# Altium schematic symbol library NB3V8312CMNG.SchLib: 1 symbol
Pins are listed as number, name and electrical type; pins without a type are passive.

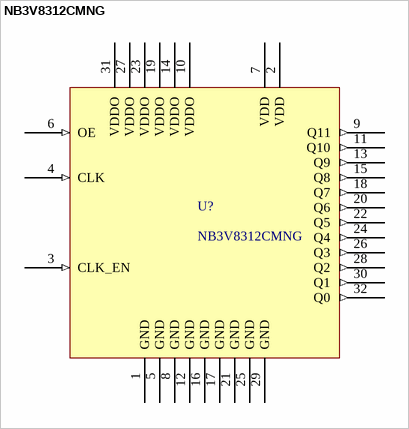
[diagram p0: symbol NB3V8312CMNG]

## NB3V8312CMNG
designator U?
Clock Fanout Buffer (Distribution) IC 1:12 250 MHz 32-VFQFN Exposed Pad; Supplier 1: Digi-Key; Supplier Part Number 1: NB3V8312CMNGOS-ND; Series: NB3V8312CMNG
footprint QFN32_5X5_ONS
pins: 1 GND, 2 VDD (power), 3 CLK_EN (in), 4 CLK (in), 5 GND, 6 OE (in), 7 VDD (power), 8 GND, 9 Q11 (out), 10 VDDO (power), 11 Q10 (out), 12 GND, 13 Q9 (out), 14 VDDO (power), 15 Q8 (out), 16 GND, 17 GND, 18 Q7 (out), 19 VDDO (power), 20 Q6 (out), 21 GND, 22 Q5 (out), 23 VDDO (power), 24 Q4 (out), 25 GND, 26 Q3 (out), 27 VDDO (power), 28 Q2 (out), 29 GND, 30 Q1 (out), 31 VDDO (power), 32 Q0 (out)